# Altium schematic symbol library SCH - OR CONTROLLER - LT LTC4357IMS8#PBF.SCHLIB: 1 symbol
Pins are listed as number, name and electrical type; pins without a type are passive.

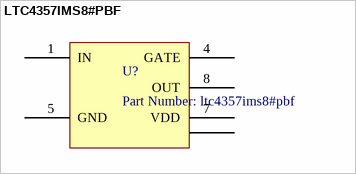
[diagram p0: symbol LTC4357IMS8#PBF]

## LTC4357IMS8#PBF
designator U?, comment Part Number: ltc4357ims8#pbf
No Description Available; Built_By: EMA_UL_Team; Vendor: Linear Technology; Manufacturer_Part_Number: ltc4357ims8#pbf; Copyright: Copyright (C) 2018 Accelerated Designs. All rights reserved; RefDes: RefDes; Type: DEV; Value: Value
pins: 1 IN, 2 NC, 3 NC, 4 GATE, 5 GND (power), 6 NC, 7 VDD (power), 8 OUT